# Altium schematic symbol library BB.GW.001.00.00.SchLib: 31 symbols
Pins are listed as number, name and electrical type; pins without a type are passive.

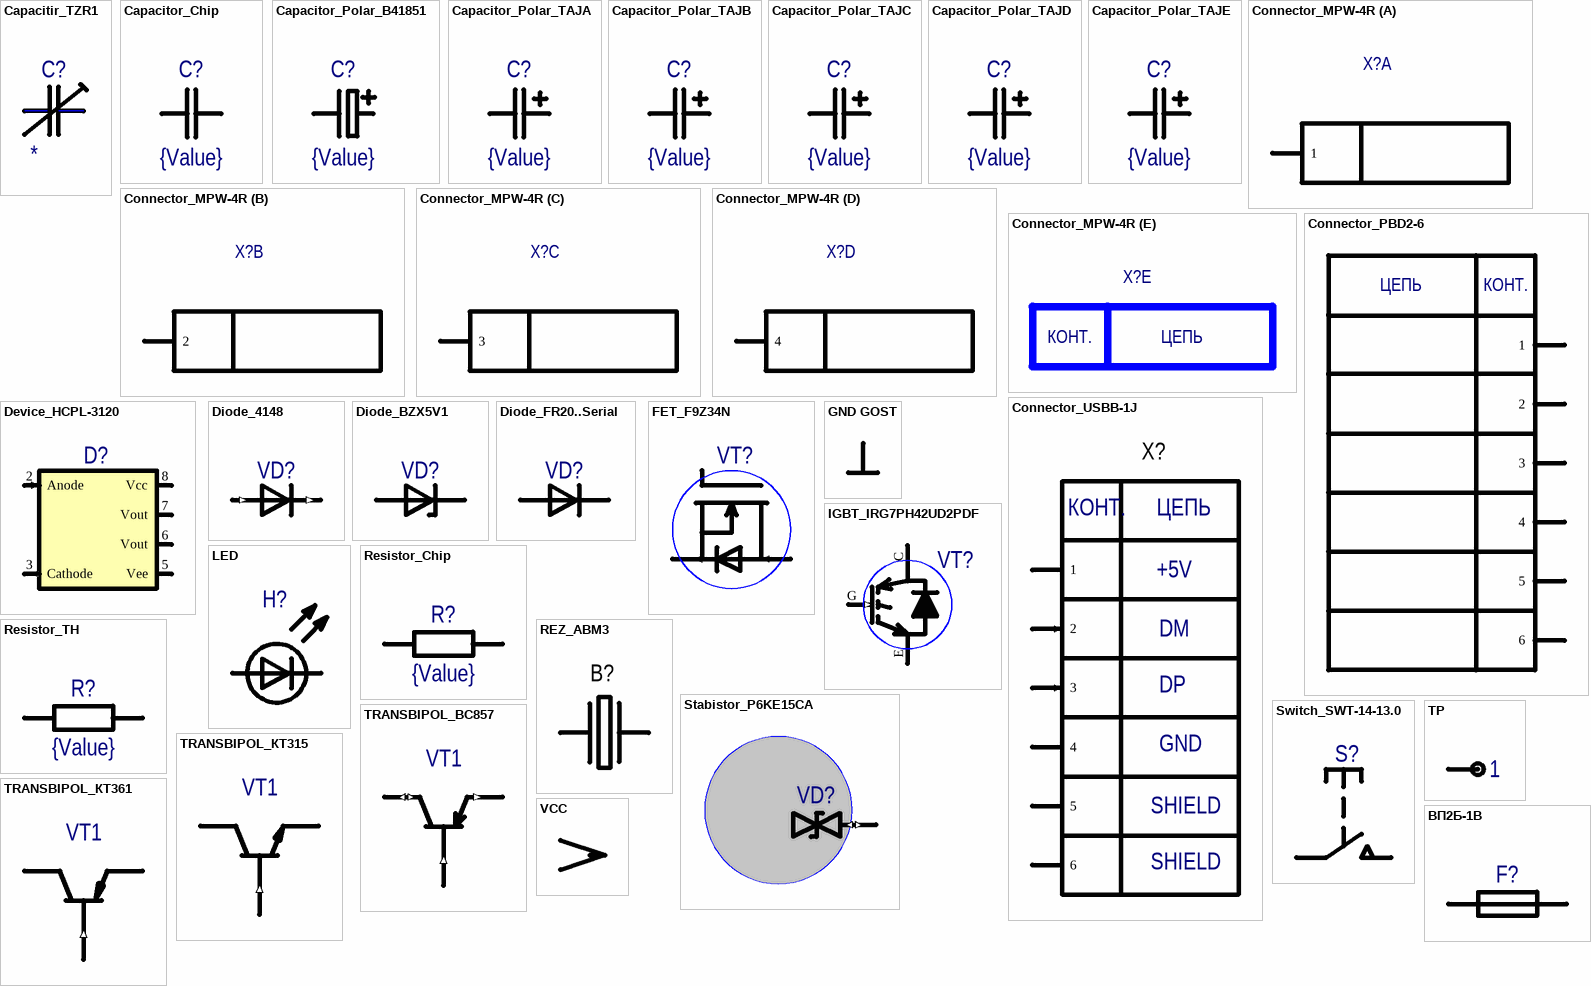
[diagram p0: symbols Capacitir_TZR1 to ВП2Б-1В]

## Capacitir_TZR1
designator C?
Ceramic Trimmer Capacitor; Manufacturer: MURATA; ManufacturerPartNumber: TZR1*; Power/Voltage: 25 В; Type: Конденсатор; BCPId: *; TKE/TKC: *; Tolerance: *; Value: *; TU/GOST: *
footprint CAPM1715X09N (Molded Capacitor, 2-Leads, Body 1,70x1,50mm, IPC Medium Density)
pins: 1, 2

## Capacitor_Chip
designator C?, comment {Value}
Чип-конденсатор; Name: 1206; Power/Voltage: {Voltage}; TKE/TKC: {TKE/TKC}; Tolerance: {Tolerance}; BCPId: *; Manufacturer: *; ManufacturerPartNumber: *; Type: Конденсатор; Value: {Value}
footprint CAPC0303X03N (Chip Capacitor, 2-Leads, Body 0,35x0,35mm, IPC Medium Density)
footprint CAPC1005L (Chip Capacitor, Body 1.0x0.5mm, IPC High Density)
footprint CAPC1005M (Chip Capacitor, Body 1.0x0.5mm, IPC Low Density)
footprint CAPC1005N (Chip Capacitor, Body 1.0x0.5mm, IPC Medium Density)
footprint CAPC1305X06L (Chip Capacitor, 2-Leads, Body 1,30x0,51mm, IPC High Density)
footprint CAPC1306N (Chip Capacitor, 2-Leads, Body 1,27x0,64mm, IPC Medium Density)
footprint CAPC1608L (Chip Capacitor, Body 1.6x0.8mm, IPC High Density)
footprint CAPC1608M (Chip Capacitor, Body 1.6x0.8mm, IPC Low Density)
footprint CAPC1608N (Chip Capacitor, Body 1.6x0.8mm, IPC Medium Density)
footprint CAPC1632X115L (Chip Capacitor, 2-Leads, Body 1,6x3,2mm, IPC High Density)
footprint CAPC1632X115M (Chip Capacitor, 2-Leads, Body 1,6x3,2mm, IPC Low Density)
footprint CAPC1632X115N (Chip Capacitor, 2-Leads, Body 1,6x3,2mm, IPC Medium Density)
footprint CAPC2012L (Chip Capacitor, Body 2.0x1.3mm, IPC High Density)
footprint CAPC2012M (Chip Capacitor, Body 2.0x1.3mm, IPC Low Density)
footprint CAPC2012N (Chip Capacitor, Body 2.0x1.3mm, IPC Medium Density)
footprint CAPC3216L (Chip Capacitor, Body 3.2x1.6mm, IPC High Density)
footprint CAPC3216M (Chip Capacitor, Body 3.2x1.6mm, IPC Low Density)
footprint CAPC3216N (Chip Capacitor, Body 3.2x1.6mm, IPC Medium Density)
footprint CAPC3225L (Chip Capacitor, Body 3.2x2.5mm, IPC High Density)
footprint CAPC3225M (Chip Capacitor, Body 3.2x2.5mm, IPC Low Density)
footprint CAPC3225N (Chip Capacitor, Body 3.2x2.5mm, IPC Medium Density)
footprint CAPC3225X20N (Chip Capacitor, 2-Leads, Body 3,20x2,50mm, IPC Medium Density)
footprint CAPC4532L (Chip Capacitor, Body 4.5x3.2mm, IPC High Density)
footprint CAPC4532M (Chip Capacitor, Body 4.5x3.2mm, IPC Low Density)
footprint CAPC4532N (Chip Capacitor, Body 4.5x3.2mm, IPC Medium Density)
footprint CAPC5750X19N (Chip Capacitor, 2-Leads, Body 5,70x5,00mm, IPC Medium Density)
footprint CAPC5750X25N (Chip Capacitor, 2-Leads, Body 5,70x5,00mm, IPC Medium Density)
pins: 1, 2

## Capacitor_Polar_B41851
designator C?, comment {Value}
Конденсатор радиальный,; Manufacturer: Epсos; Name: B41851; Power/Voltage: {Voltage}; Tolerance: {Tolerance}; BCPId: *; TKE/TKC: *; ManufacturerPartNumber: *; Type: Конденсатор; Value: {Value}
footprint TC3216-1206 (Capacitor, SM Tantalum; Body 3.2 x 1.6 mm (LxW typ))
pins: 1, 2

## Capacitor_Polar_TAJA
designator C?, comment {Value}
Танталовый конденсатор; Name: TAJA; Power/Voltage: {Voltage}; Tolerance: {Tolerance}; BCPId: *; Manufacturer: *; TKE/TKC: *; ManufacturerPartNumber: *; Type: Конденсатор; Value: {Value}
footprint TC3216-1206 (Capacitor, SM Tantalum; Body 3.2 x 1.6 mm (LxW typ))
pins: 1, 2

## Capacitor_Polar_TAJB
designator C?, comment {Value}
Танталовый конденсатор; Name: TAJB; Power/Voltage: {Voltage}; Tolerance: {Tolerance}; BCPId: *; Manufacturer: *; TKE/TKC: *; ManufacturerPartNumber: *; Type: Конденсатор; Value: {Value}
footprint TC3528-1411 (Capacitor, SM Tantalum; Body 3.5 x 2.8 mm (LxW typ))
pins: 1, 2

## Capacitor_Polar_TAJC
designator C?, comment {Value}
Танталовый конденсатор; Name: TAJC; Power/Voltage: {Voltage}; Tolerance: {Tolerance}; BCPId: *; Manufacturer: *; TKE/TKC: *; ManufacturerPartNumber: *; Type: Конденсатор; Value: {Value}
footprint TC6032-2412 (Capacitor, SM Tantalum; Body 6.0 x 3.2 mm (LxW typ))
pins: 1, 2

## Capacitor_Polar_TAJD
designator C?, comment {Value}
Танталовый конденсатор; Name: TAJD; Power/Voltage: {Voltage}; Tolerance: {Tolerance}; BCPId: *; Manufacturer: *; TKE/TKC: *; ManufacturerPartNumber: *; Type: Конденсатор; Value: {Value}
footprint CAPMP7343X31N (Molded Capacitor, 2-Leads, Body 7,30x4,30mm, IPC Medium Density)
pins: 1, 2

## Capacitor_Polar_TAJE
designator C?, comment {Value}
Танталовый конденсатор; Name: TAJE; Power/Voltage: {Voltage}; Tolerance: {Tolerance}; BCPId: *; Manufacturer: *; TKE/TKC: *; ManufacturerPartNumber: *; Type: Конденсатор; Value: {Value}
footprint TC7343-2917 (Capacitor, SM Tantalum; Body 7.3 x 4.3 mm (LxW typ))
pins: 1, 2

## Connector_MPW-4R
designator X?, comment MPW-4R  (value not drawn)
Value: *
footprint CONH MPW-4R
part A pins: 1
part B pins: 2
part C pins: 3
part D pins: 4
part E text: КОНТ.; ЦЕПЬ

## Connector_PBD2-6
designator X?  (value not drawn)
Гнездо на плату шаг 2.00мм., двухрядные; Manufacturer: Бурый медведь; ManufacturerPartNumber: PBD2-6; BCPId: *; Type: Розетка
footprint PBD2-6 (Гнезда на плату,  шаг 2.00мм., двухрядные,  прямые контакты)
pins: 1, 2, 3, 4, 5, 6
text: ЦЕПЬ; КОНТ.

## Connector_USBB-1J
designator X?, comment USBB-1J  (value not drawn)
Разъем USBB на плату; Manufacturer*: NXU; BCPId: *; Type: Розетка; ManufacturerPartNumber: USBB-1J
footprint USBB-1J (USB B type R\A dip type)
pins: 1 (power), 2 (in), 3 (in), 4 (power), 5 (power), 6 (power)
text: КОНТ.; ЦЕПЬ; +5V; DM; DP; GND; SHIELD

## Device_HCPL-3120
designator D?, comment МикросхемаHCPL-3120  (value not drawn)
2.5 Amp Output Current IGBT Gate Drive Optocoupler; Manufacturer: Avago, Avago Technologies; Rule: PcbType=ProtelPcb; ManufacturerPartNumber: HCPL-3120; BCPId: *; ComponentLink2Description: Package; Category: Микросхема; ComponentLink1URL: k:\Projects\BB.001.00.00 (Преобразователь частотный)\Datashets\Функциональная группа ''A1''\hcpl-3120-500e.pdf; ComponentLink1Description: DataSheet; ComponentLink2URL: k:\Projects\BB.001.00.00 (Преобразователь частотный)\Datashets\Функциональная группа ''A1''\hcpl-3120-500e.pdf#page=3
footprint DIP-8
pins: 2 Anode (in), 3 Cathode (out), 5 Vee (power), 6 Vout (power) "Vo", 7 Vout (power), 8 Vcc (power)

## Diode_4148
designator VD?, comment 1N4148  (value not drawn)
Диод; Manufacturer: WTE power Semiconductor; BCPId: *; Rem: *; Package: *; ManufacturerPartNumber: 1N4148; Type: Диод; TU/GOST: *; HelpURL: *; Price: 3
footprint SOD-123
pins: 1 Anode (in), 2 Cathode (out)

## Diode_BZX5V1
designator VD?, comment BZX5V1  (value not drawn)
Диод; Manufacturer: WTE power Semiconductor; BCPId: *; Rem: *; Package: *; ManufacturerPartNumber: BZX5V1; Type: Диод; TU/GOST: *; HelpURL: *; Price: *
footprint DO-35
pins: 1 Anode, 2 Cathode

## Diode_FR20..Serial
designator VD?, comment FR20  (value not drawn)
Диод; Manufacturer: WTE power Semiconductor; BCPId: *; Rem: *; Package: *; ManufacturerPartNumber: FR20; Type: Диод; TU/GOST: *; HelpURL: *; Price: *
footprint DO-15
pins: 1 Anode, 2 Cathode

## EMBLEM
designator *  (value not drawn)  (mechanical)
Эмблема предприятия
footprint EMBLEM

## FET_F9Z34N
designator VT?, comment F9Z34N  (value not drawn)
Транзистор полевой; ManufacturerPartNumber: F9Z34N; BCPId: *; Manufacturer: *; Package: Корпус КТ-9С; Type: Транзистор
footprint TO-220_TH_Horizontal_Var#1 (Transistor outline, TO-220, TH, требуеться прошивка. Формовку выводов см. приспособление ЛБИЮ.7803-0021-000 СБ); pin to pad Drain>2+4 Gate>1 Sourse>3
footprint TO-220_TH_Horizontal_Var#2 (Transistor outline, TO-220, TH с разнесеными выводами, требуеться прошивка); pin to pad Drain>2+4 Gate>1 Sourse>3
footprint TO-220_TH_Vertical_Var#1 (Transistor outline, TO-220, TH, под установку на радиатор); pin to pad Drain>2 Gate>1 Sourse>3
footprint TO-220_TH_Vertical_Var#2 (Transistor outline, TO-220, TH с разнесенными выводами, под установку на радиатор); pin to pad Drain>2 Gate>1 Sourse>3
pins: Drain (in), Gate (oe), Sourse (out)

## GND GOST
designator GND  (value not drawn)  (graphical)
Корпус ЕСКД. Для "наложения" на штатный GOST Power Bar

## IGBT_IRG7PH42UD2PDF
designator VT?  (value not drawn)
insulated gate bipolar transistor with  ultrafast soft recovery diode; ManufacturerPartNumber: IRG7PH42UD2PDF; BCPId: *; Manufacturer: *; Package: TO-247AC
footprint TO-247AC
pins: C (oc) "Collector", E (oe) "Emitter", G (in) "Gate"

## LED
designator H?, comment KPG-1608ZGC  (value not drawn)
Светодиод; Manufacturer: Kingbright; BCPId: *; Rem: *; Package: *; ManufacturerPartNumber: KPG-1608ZGC; Type: Светодиод; TU/GOST: *; HelpURL: *; Price: *
footprint LED_1608X25N (Chip LED lamp, 2-Leads, Body 1,60x0,80mm, IPC Medium Density)
pins: 1 Anode, 2 Cathode

## Resistor_Chip
designator R?, comment {Value}
Чип-резистор; Tolerance: {Tolerance}; BCPId: *; Manufacturer: *; Name: *; Type: Резистор; Value: {Value}
footprint RESC10050X80N (SMD; Body:10,2Х5,2Х0,8mm; Чип-резистор)
footprint RESC6432N (Chip Resistor, Body 6.4x3.2mm, IPC Medium Density)
footprint RESC6432M (Chip Resistor, Body 6.4x3.2mm, IPC Low Density)
footprint RESC6432L (Chip Resistor, Body 6.4x3.2mm, IPC High Density)
footprint RESC5025X80N (SMD; Body:50,25Х2,54Х0,8mm; Чип-резистор)
footprint RESC5025X80M (SMD; Body:50,25Х2,54Х0,8mm; Чип-резистор)
footprint RESC5025X80L (SMD; Body:50,25Х2,54Х0,8mm; Чип-резистор)
footprint RESC4532N (Chip Resistor, Body 4.5x3.2mm, IPC Medium Density)
footprint RESC3246 (Chip Resistor, 2-Leads, Body 3,2x4,6mm, IPC Medium Density)
footprint RESC1005L (Chip Resistor, Body 1.1x0.5mm, IPC High Density)
footprint RESC1005M (Chip Resistor, Body 1.1x0.5mm, IPC Low Density)
footprint RESC1005N (Chip Resistor, Body 1.1x0.5mm, IPC Medium Density)
footprint RESC1210X110N (SMD, Body: 120x100x110; Резистор высокочастотный неизолированный безвыводной)
footprint RESC1608L (Chip Resistor, Body 1.6x0.8mm, IPC High Density)
footprint RESC1608M (Chip Resistor, Body 1.6x0.8mm, IPC Low Density)
footprint RESC1608N (Chip Resistor, Body 1.6x0.8mm, IPC Medium Density)
footprint RESC2012L (Chip Resistor, Body 2.0x1.3mm, IPC High Density)
footprint RESC2012M (Chip Resistor, Body 2.0x1.3mm, IPC Low Density)
footprint RESC2012N (Chip Resistor, Body 2.0x1.3mm, IPC Medium Density)
footprint RESC3216L (Chip Resistor, Body 3.2x1.6mm, IPC High Density)
footprint RESC3216M (Chip Resistor, Body 3.2x1.6mm, IPC Low Density)
footprint RESC3216N (Chip Resistor, Body 3.2x1.6mm, IPC Medium Density)
footprint RESC3225L (Chip Resistor, Body 3.2x2.5mm, IPC High Density)
footprint RESC3225M (Chip Resistor, Body 3.2x2.5mm, IPC Low Density)
footprint RESC3225N (Chip Resistor, Body 3.2x2.5mm, IPC Medium Density)
pins: 1, 2

## Resistor_TH
designator R?, comment {Value}
Резистор; Tolerance: {Tolerance}; BCPId: *; Manufacturer: *; Name: *; Type: Резистор; Value: {Value}
footprint С2-33H-0.125 (HTD; body:6.0х2.2mm Резистор постоянный непроволочный)
footprint RESW_SQP-7 (Резистор мощный проволочный 5Вт; Body)
pins: 1, 2

## REZ_ABM3
designator B?, comment ABM3-25 МHz-D2Y  (value not drawn)
Резонатор кварцевый; Manufacturer*: Abracon; Value: 25МГц; BCPId: *; Type: Резонатор кварцевый; ManufacturerPartNumber: ABM3-25 МHz-D2Y
footprint OSC_ABM3 (MINIATURE CERAMIC SMD CRYSTAL 3.2x5x1.3)
pins: 1, 2

## Stabistor_P6KE15CA
designator VD?  (value not drawn)
Стабилитрон; ManufacturerPartNumber: P6KE15CA; BCPId: *; Name: *; Type: Стабилитрон; Manufacturer: *
footprint D2A
pins: 1 Anode (io), 2 Cathode (io)

## Switch_SWT-14-13.0
designator S?, comment SWT-14-13.0  (value not drawn)
Переключатель SWT-14-13.0; BCPId: *; Manufacturer: *; ManufacturerPartNumber: SWT-14-13.0; Type: Переключатель; TU/GOST: *
footprint SWT-14-13 (Компоненты коммутации,  кнопки тактовые DIP)
pins: 1 "Negative Main Supply", 2 "Negative Main Supply"

## TP
designator 1  (value not drawn)  (no BOM)
Test point
footprint TP1 (Test point 1x1.6)
footprint TP1extend (Test point и крепление провода МГТФ 0,35)
footprint TP0.3 (Test point 0.3x0.7)
footprint TP1.5 (Test point 1.5x3)
footprint TP2X3
footprint TP1.5X2.5
footprint Rus_Контакт ПШРИ.757465.001 -01 (THD; Body: L=2.5mm, B=0,6mm, H=8mm; Weight: 0.13g; д.н. ПШРИ.757465.001 -01, Контакт для ПП толщиной 1,5 мм, при объемном монтаже, см. ОСТ4 Г0.812.201)
footprint Rus_Контакт ПШРИ.757465.001 -02 (THD; Body: L=2.5mm, B=0,6mm, H=8,5mm; Weight: 0.14g; д.н. ПШРИ.757465.001 -01, Контакт для ПП толщиной 2 мм, при объемном монтаже, см. ОСТ4 Г0.812.201)
footprint TP0.8X1.5
pins: 1

## TRANSBIPOL_BC857
designator VT1  (value not drawn)
Транзистор биполярный; ManufacturerPartNumber: BC857; BCPId: *; Manufacturer: *; Package: SOT23; Type: Транзистор
footprint SOT23-3L (SOT23, 3-Leads, Body 2.9x1.3mm, Pitch 0.95mm, Lead Span 2.5mm, IPC High Density)
footprint SOT23-3M (SOT23, 3-Leads, Body 2.9x1.3mm, Pitch 0.95mm, Lead Span 2.5mm, IPC Low Density)
footprint SOT23-3N (SOT23, 3-Leads, Body 2.9x1.3mm, Pitch 0.95mm, Lead Span 2.5mm, IPC Medium Density)
pins: 1 (in), 2 (out), 3 (io)

## TRANSBIPOL_КТ315
designator VT1  (value not drawn)
Транзистор биполярный; ManufacturerPartNumber: КТ315; BCPId: *; Manufacturer: *; Package: KT-13; Type: Транзистор
footprint Rus_КT-13 (THD; Body: L=7.2mm, B=3mm, H=5mm; Weight: ?g; Транзистор КТ315(А...И))
pins: B (in), C (oc) "Коллектор", E (oe) "Эмиттер"

## TRANSBIPOL_КТ361
designator VT1  (value not drawn)
Транзистор биполярный; ManufacturerPartNumber: КТ361; BCPId: *; Manufacturer: *; Package: KT-13; Type: Транзистор
footprint Rus_КT-13 (THD; Body: L=7.2mm, B=3mm, H=5mm; Weight: ?g; Транзистор КТ315(А...И))
pins: B (in), C (oc) "Коллектор", E (oe) "Эмиттер"

## VCC
designator *  (value not drawn)  (graphical)
Порт ЕСКД. Для "наложения" на штатный Power Bar

## ВП2Б-1В
designator F?
Вставка плавкая; ManufacturerPartNumber: ВП2Б-1В; Voltage: {Voltage}; TU/GOST*: ОЮ0.481.005 ТУ-Р; Current: {Current}; BCPId: *; Manufacturer: *; Name: *; Type: Вставка плавкая
pins: 1, 2